# Altium schematic symbol library TG-12x7x5.SchLib: 1 symbol
Pins are listed as number, name and electrical type; pins without a type are passive.

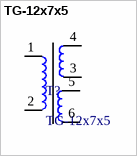
[diagram p0: symbol TG-12x7x5]

## TG-12x7x5
designator T?
footprint TG_12x7x5
pins: 1, 2, 3, 4, 5, 6